# EAGLE library part EPIC-PROGRAMMER (library powercube)
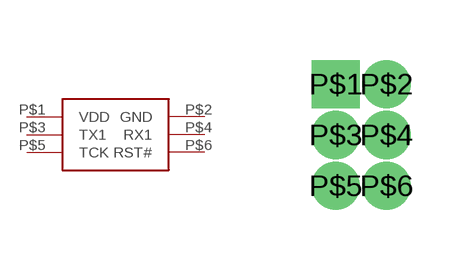
[diagram p11: symbol with the pads of HEADER2X3X1.27MM; footprint HEADER2X3X1.27MM]

Designator prefix C

## EPIC-PROGRAMMER  [HEADER2X3X1.27MM]
P$1  VDD
P$2  GND
P$3  TX1
P$4  RX1
P$5  TCK
P$6  RST#

## Footprint HEADER2X3X1.27MM (pad centres in mm)
drill 0.7 pad 1.016 square: P$1 -0.635,1.27
drill 0.7 pad 0.889: P$2 0.635,1.27
drill 0.7 pad 1.016: P$3 -0.635,0; P$4 0.635,0; P$5 -0.635,-1.27; P$6 0.635,-1.27